# Altium footprint library Variable.PcbLib: 2 footprints
Each footprint in its own frame and in the unit in brackets; x right, y up, seen from the top. Pads: shape width x height; smd on the part's side, far side on the other; paste and mask are expansions set on the pad; w line width, h text height; cw(c..) or ccw(c..) is an arc to the next point about the centre after c.
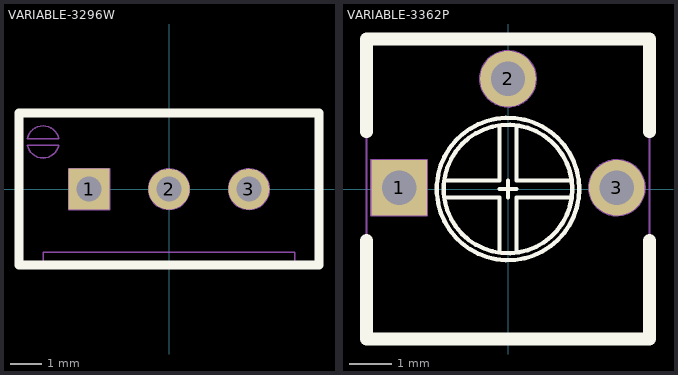
[diagram p0: the footprints below, top view; thin cyan lines are the x and y axes]

## VARIABLE-3296W [mm]
height 16.4
pads (3):
  rect 1.3x1.3 hole 0.8 paste+0.1: 1(-2.54,0)
  round 1.3 hole 0.8 paste+0.1: 2(0,0) 3(2.54,0)
Top Overlay:
  lines w0.3: -4.765,-2.41 -4.765,2.42 4.765,2.42 4.765,-2.41 -4.765,-2.41
Top HCB:
  circle w0.05: c2.54,0 r0.65
  circle w0.05: c0,0 r0.65
  lines w0.05: -4.765,-2.41 -4.01,-2.41 -4,-2.4 -4,-2 4,-2 4,-2.41 4.765,-2.41 4.765,2.42 -4.765,2.42 -4.765,-2.41 ; -4.5,1.4 ccw(c-4,1.5) -3.5,1.4 -4.5,1.4 ; -4.5,1.6 cw(c-4,1.5) -3.5,1.6 -4.5,1.6 ; -3.19,-0.65 -1.89,-0.65 -1.89,0.65 -3.19,0.65 -3.19,-0.65
  text "2" at -0.24,-0.3 h1
  text "3" at 2.26,-0.3 h1
  text "1" at -2.74,-0.3 h1
3D body "3296w-1-102.stp": height 11.3, standoff -3.25, extent -4.775,-2.4 4.775,2.426

## VARIABLE-3362P [mm]
height 4.7
pads (3):
  rect 1.3x1.3 hole 0.8 paste+0.1: 1(-2.54,0.03)
  round 1.3 hole 0.8 paste+0.1: 2(0,2.57) 3(2.54,0.03)
Top Overlay:
  circle w0.1: c0,0 r1.5
  circle w0.1: c0,0 r1.663
  lines w0.1: -1.475,-0.2 -0.2,-0.2 -0.2,-1.475 ; -1.475,0.2 -0.2,0.2 -0.2,1.475 ; -0.2,0 0.2,0 ; 0,-0.2 0,0.2 ; 0.2,-1.475 0.2,-0.2 1.475,-0.2 ; 0.2,1.475 0.2,0.2 1.475,0.2
  lines w0.3: -3.3,-3.5 3.3,-3.5 ; -3.3,-3.49 -3.3,-1.205 ; -3.3,1.335 -3.3,3.5 3.3,3.5 3.3,1.335 ; 3.3,-3.49 3.3,-1.205
Top HCB:
  circle w0.05: c0,0 r1.663
  circle w0.05: c0,0 r1.5
  circle w0.05: c0,2.57 r0.65
  circle w0.05: c2.54,0.03 r0.65
  lines w0.05: -1.475,-0.2 -0.2,-0.2 -0.2,-1.475 ; -1.475,0.2 -0.2,0.2 -0.2,1.475 ; -0.2,0 0.2,0 ; 0,-0.2 0,0.2 ; 0.2,-1.475 0.2,-0.2 1.475,-0.2 ; 0.2,1.475 0.2,0.2 1.475,0.2 ; -3.3,-3.495 3.3,-3.495 3.3,3.495 -3.3,3.495 -3.3,-3.495 ; -3.19,-0.62 -1.89,-0.62 -1.89,0.68 -3.19,0.68 -3.19,-0.62
  text "2" at -0.2,2.3 h1
  text "3" at 2.3,-0.3 h1
  text "1" at -2.7,-0.3 h1
3D body "3362p-1-101.stp": height 4.84, standoff -5.32, extent -3.353,-3.536 3.353,3.5